# Altium footprint library SOT23-3.PcbLib: 1 footprints
Each footprint in its own frame and in the unit in brackets; x right, y up, seen from the top. Pads: shape width x height; smd on the part's side, far side on the other; paste and mask are expansions set on the pad; w line width, h text height; cw(c..) or ccw(c..) is an arc to the next point about the centre after c.
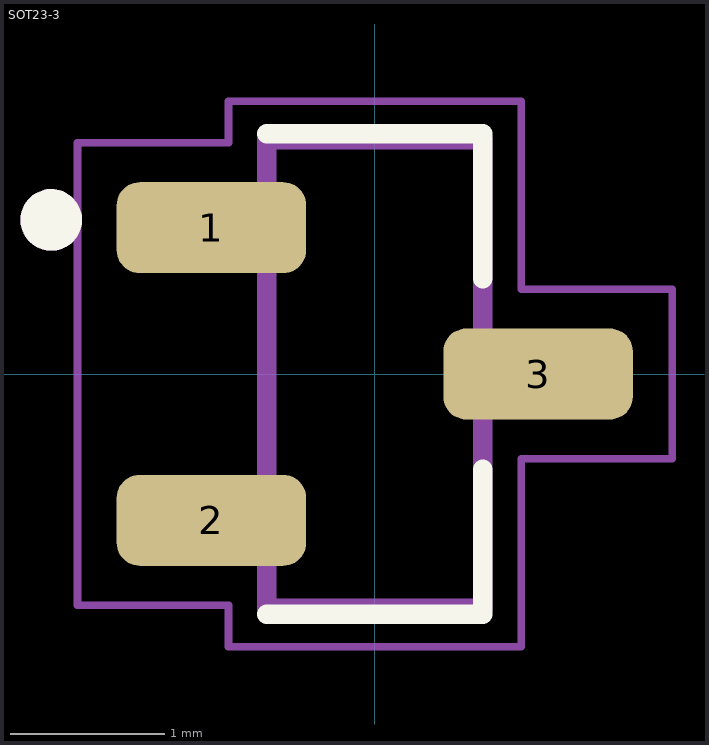
[diagram p0: the footprint, top view; thin cyan lines are the x and y axes]

## SOT23-3 [mm]
pads (3):
  rrect50% 1.23x0.59 smd paste+0 mask+0.102: 1(-1.06,0.95) 2(-1.06,-0.95) 3(1.06,0)
Top Overlay:
  circle w0.2: c-2.1,1 r0.1
  lines w0.127: -0.7,-1.56 0.7,-1.56 0.7,-0.62 ; -0.7,1.56 0.7,1.56 0.7,0.62
Assembly Top:
  circle w0.2: c-2.1,1 r0.1
  lines w0.127: -0.7,-1.52 -0.7,1.52 0.7,1.52 0.7,-1.52 -0.7,-1.52
Top Courtyard:
  lines w0.05: -1.93,-1.5 -1.93,1.5 -0.95,1.5 -0.95,1.77 0.95,1.77 0.95,0.55 1.93,0.55 1.93,-0.55 0.95,-0.55 0.95,-1.77 -0.95,-1.77 -0.95,-1.5 -1.93,-1.5
3D body "step_temp.STEP": height 1.12, standoff 0, extent -1.185,-1.46 1.185,1.46